# EAGLE library part TPS2115A (library pimoroni)
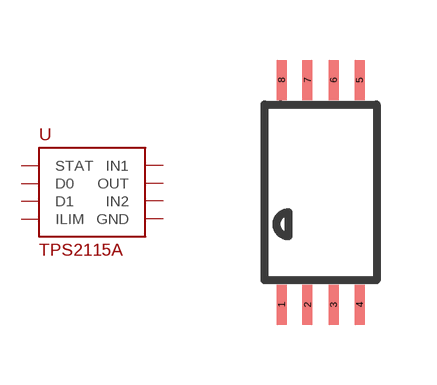
[diagram p14: symbol with the pads of TSSOP-8; footprint TSSOP-8]

Designator prefix -

## TPS2115A  [TSSOP-8]
1  STAT
2  D0
3  D1
4  ILIM
5  GND
6  IN2
7  OUT
8  IN1

## Footprint TSSOP-8 (pad centres in mm)
smd 0.25 x 1: 1 -0.975,-2.813; 2 -0.325,-2.813; 3 0.325,-2.813; 4 0.975,-2.813; 5 0.975,2.813; 6 0.325,2.813; 7 -0.325,2.813; 8 -0.975,2.813